# Altium footprint library VPP10-1000.PcbLib: 1 footprints
Each footprint in its own frame and in the unit in brackets; x right, y up, seen from the top. Pads: shape width x height; smd on the part's side, far side on the other; paste and mask are expansions set on the pad; w line width, h text height; cw(c..) or ccw(c..) is an arc to the next point about the centre after c.
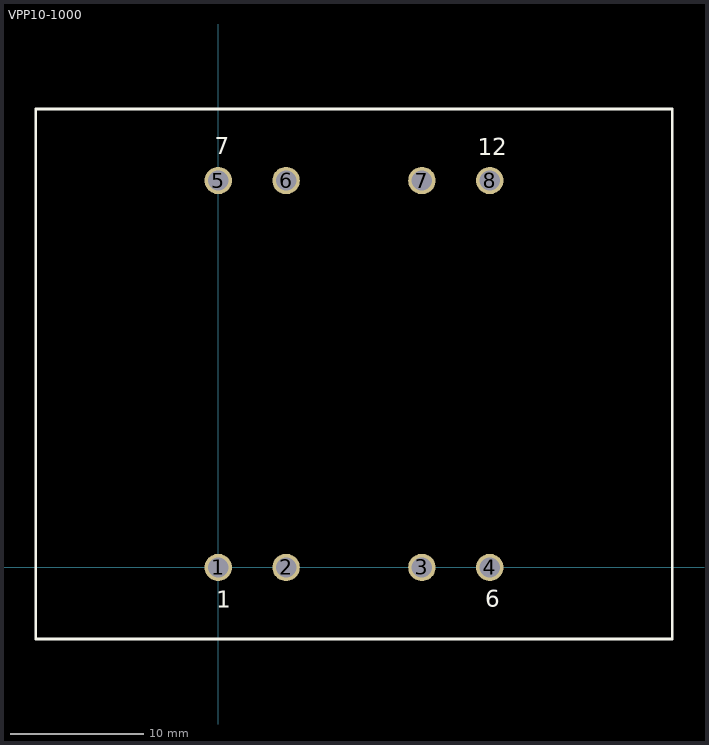
[diagram p0: the footprint, top view; thin cyan lines are the x and y axes]

## VPP10-1000 [mm] "10W 230/115V UL/VDE Cert Transformer"
pads (8):
  round 2.05 hole 1.524: 1(0,0) 2(5.08,0) 3(15.24,0) 4(20.32,0) 5(0,28.956) 6(5.08,28.956) 7(15.24,28.956) 8(20.32,28.956)
Top Overlay:
  lines w0.2: -13.652,-5.359 33.972,-5.359 33.972,34.315 -13.652,34.315 -13.652,-5.359
  text "12" at 19.406,30.861 h1.27
  text "7" at -0.279,30.912 h1.27
  text "6" at 19.964,-2.972 h1.27
  text "1" at -0.152,-3.023 h1.27
3D body: height 3, standoff 0, extent -4.039,25.984 24.46,27
3D body: height 3, standoff 0, extent -4.039,2.413 24.46,3.429
3D body: height 3, standoff 0, extent -4.039,13.894 24.435,15.977
3D body: height 0, standoff -2, extent -0.446,28.507 0.45,29.405
3D body: height 0, standoff -2, extent 4.634,28.532 5.53,29.43
3D body: height 0, standoff -2, extent 14.794,28.507 15.69,29.405
3D body: height 0, standoff -2, extent 19.874,28.507 20.77,29.405
3D body: height 0, standoff -2, extent 19.874,-0.449 20.77,0.449
3D body: height 0, standoff -2, extent 14.794,-0.449 15.69,0.449
3D body: height 0, standoff -2, extent 4.634,-0.449 5.53,0.449
3D body: height 0, standoff -2, extent -0.446,-0.449 0.45,0.449
3D body: height 34.6, standoff 30, extent -4.75,3.988 25.095,25.502
3D body: height 34.5, standoff 10.6, extent -5.512,3.15 26.035,26.264
3D body: height 10.6, standoff 3, extent -4.039,-3.48 24.46,32.563
3D body: height 27.4, standoff 10.6, extent -13.651,-5.358 33.971,34.315